# Altium footprint library CASE-017AA-01.PcbLib: 1 footprints
Each footprint in its own frame and in the unit in brackets; x right, y up, seen from the top. Pads: shape width x height; smd on the part's side, far side on the other; paste and mask are expansions set on the pad; w line width, h text height; cw(c..) or ccw(c..) is an arc to the next point about the centre after c.
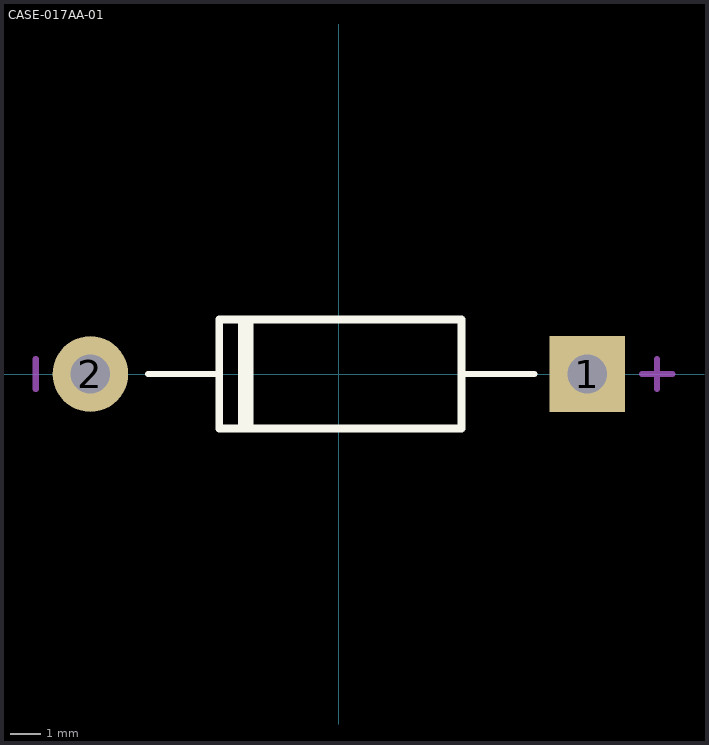
[diagram p0: the footprint, top view; thin cyan lines are the x and y axes]

## CASE-017AA-01 [mm] "=CASE 017AA-01 Diode"
pads (2):
  rect 2.5x2.5 hole 1.3: 1(8.2,0)
  round 2.5 hole 1.3: 2(-8.2,0)
Top Overlay:
  lines w0.203: -6.3,0 -3.95,0 ; 4.1,0 6.45,0
  lines w0.254: -3.2,-1.8 -3.2,1.8 ; -2.95,-1.8 -2.95,1.8 ; -3.95,-1.8 4.05,-1.8 4.05,1.8 -3.95,1.8 -3.95,-1.8
Mechanical 15:
  lines w0.203: -10,-0.5 -10,0.5 ; 10,0 11,0 ; 10.5,-0.5 10.5,0.5
3D body: height 4.27, standoff -2.5, extent -8.75,-1.772 8.75,1.772